# Altium footprint library SULLINS_SBH11-PBPC-D10-ST-BK.PcbLib: 1 footprints
Each footprint in its own frame and in the unit in brackets; x right, y up, seen from the top. Pads: shape width x height; smd on the part's side, far side on the other; paste and mask are expansions set on the pad; w line width, h text height; cw(c..) or ccw(c..) is an arc to the next point about the centre after c.
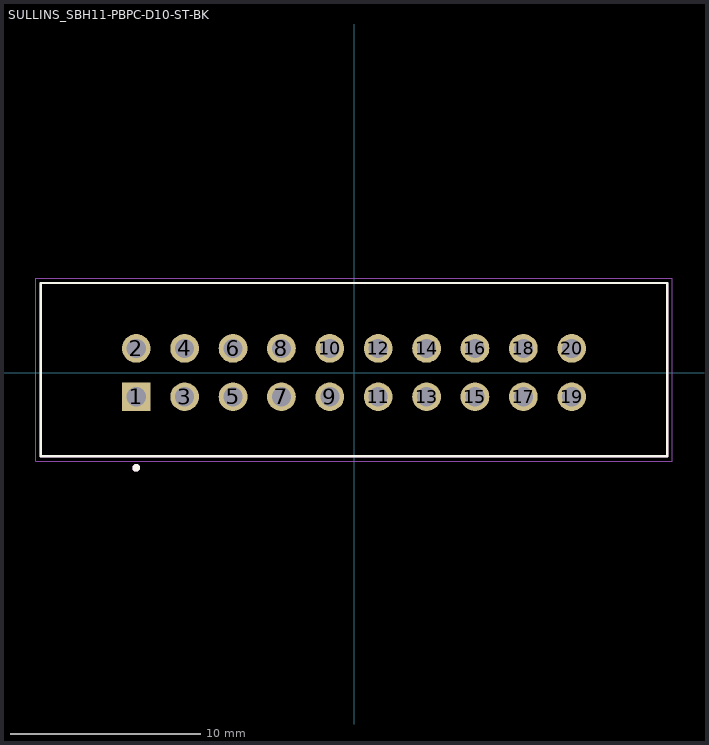
[diagram p0: the footprint, top view; thin cyan lines are the x and y axes]

## SULLINS_SBH11-PBPC-D10-ST-BK [mm]
height 9.4
pads (20):
  rect 1.508x1.508 / inner round 1.508 / far side rect 1.508x1.508 hole 1 mask+0.05: 1(-11.43,-1.27)
  round 1.508 hole 1 mask+0.05: 2(-11.43,1.27) 3(-8.89,-1.27) 4(-8.89,1.27) 5(-6.35,-1.27) 6(-6.35,1.27) 7(-3.81,-1.27) 8(-3.81,1.27) 9(-1.27,-1.27) 10(-1.27,1.27) 11(1.27,-1.27) 12(1.27,1.27) 13(3.81,-1.27) 14(3.81,1.27) 15(6.35,-1.27) 16(6.35,1.27) 17(8.89,-1.27) 18(8.89,1.27) 19(11.43,-1.27) 20(11.43,1.27)
Top Overlay:
  circle w0.2: c-11.43,-5 r0.1
  lines w0.127: -16.45,-4.4 -16.45,4.7 16.45,4.7 16.45,-4.4 -16.45,-4.4
Mechanical 13:
  circle w0.2: c-11.43,-5 r0.1
  lines w0.127: -16.45,-4.4 16.45,-4.4 16.45,4.7 -16.45,4.7 -16.45,-4.4
Mechanical 15:
  lines w0.05: -16.7,-4.65 16.7,-4.65 16.7,4.95 -16.7,4.95 -16.7,-4.65
3D body "step_temp.STEP": height 9.09, standoff -3, extent -16.447,-4.394 16.447,4.699